# EAGLE library part 750311063 (library WE-GDT)
WE-GDT Gate-Drive-Transformer Characteristics Excellent performances in small package (EP5) 1 or 2 secondary windings 6 different turnsratios 1500VDC insulation test voltage Operating voltage up to 80 V Applications Suitable for signal and power application Designed for gate drive application high efficient SMPS Synchronous Flyback <https://www.we-online.com/components/media/o727400v209%20multi-WE-GDT-76030110x.jpg> Details see: www.we-online.com/en/components/products/WE-GDT <www.we-online.com/catalog/WE-GDT/?utm_source=eagle_model&utm_medium=description_link&utm_campaign=eisos_eagle> Updated by Ella 2024-05-15 2024(C) Wurth Elektronik
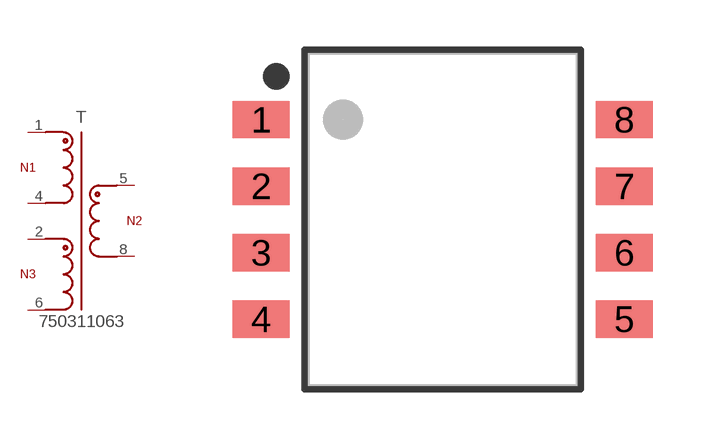
[diagram p5: symbol with the pads of WE-GDT_ER9.5_L10W12.07H5.97; footprint WE-GDT_ER9.5_L10W12.07H5.97]

Designator prefix T

## 750311063 (CWW: 12pF; DATASHEET-URL: https://www.we-online.com/redexpert/spec/750311063?ae; HEIGHT: 5.97mm; L: 600uH; LENGTH: 10mm; LS: 1400nH; MOUNT: SMT; N: 1:1; PART-NUMBER: 750311063; RDC1: 240mOhm; SIZE: ER9.5; VALUE: 750311063; VOLTAGE-TIME: 70uVs; WIDTH: 12.07mm)  [WE-GDT_ER9.5_L10W12.07H5.97]
1  1  pas
2  2  pas
4  4  pas
5  5  pas
6  6  pas
8  8  pas

## Footprint WE-GDT_ER9.5_L10W12.07H5.97 (pad centres in mm)
WE-GDT Gate-Drive-Transformer Size ER9.5, SMT, 8Pins LXWXH=10X12.07X5.97mm
smd 1.7 x 1.12: 1 -5.46,3; 2 -5.46,1; 3 -5.46,-1; 4 -5.46,-3; 5 5.46,-3; 6 5.46,-1; 7 5.46,1; 8 5.46,3